# Altium schematic symbol library SCH - POWER - LINEAR VREG - TI TPS75901KTT.SchLib: 1 symbol
Pins are listed as number, name and electrical type; pins without a type are passive.

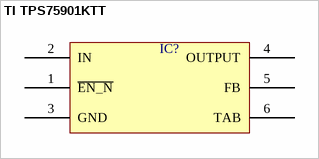
[diagram p0: symbol TI TPS75901KTT]

## TI TPS75901KTT
designator IC?  (value not drawn)
pins: 1 ~{EN_N}, 2 IN, 3 GND, 4 OUTPUT, 5 FB, 6 TAB